# Altium footprint library FYP.PcbLib: 10 footprints
Each footprint in its own frame and in the unit in brackets; x right, y up, seen from the top. Pads: shape width x height; smd on the part's side, far side on the other; paste and mask are expansions set on the pad; w line width, h text height; cw(c..) or ccw(c..) is an arc to the next point about the centre after c.
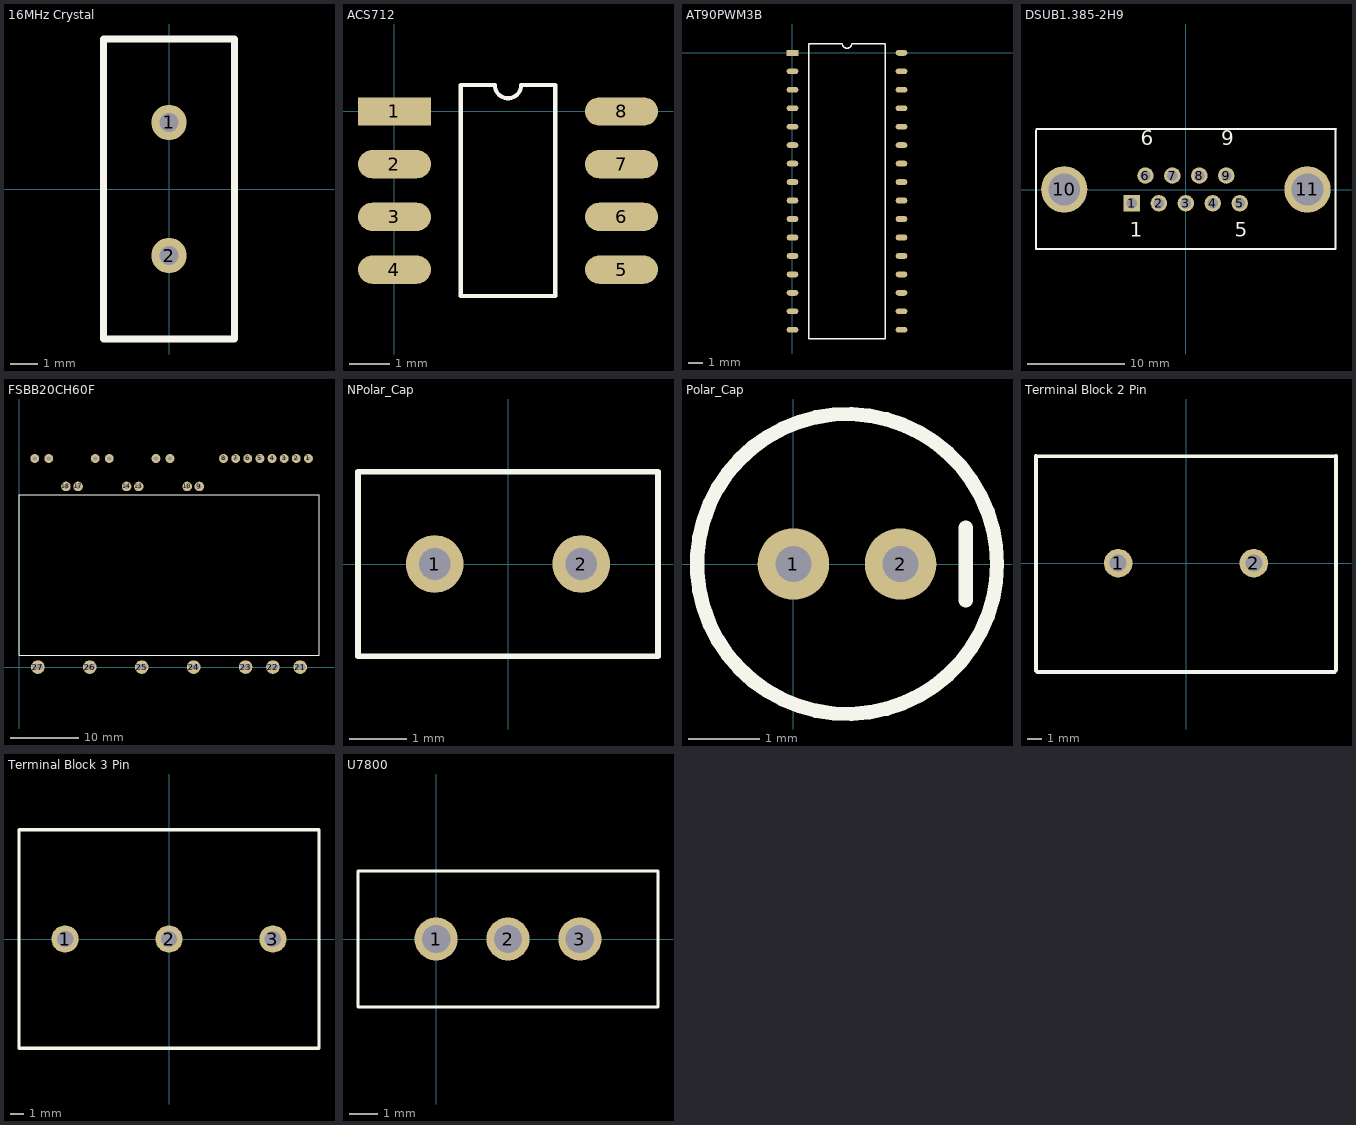
[diagram p0: the footprints below, top view; thin cyan lines are the x and y axes]

## 16MHz Crystal [mm] "Crystal, Thru-Hole; 2 Leads; Body 3.1 x 8.2 mm (Dia.xH)"
height 8.2
pads (2):
  round 1.3 hole 0.7: 1(0,2.44) 2(0,-2.44)
Top Overlay:
  lines w0.254: -2.4,-5.5 2.4,-5.5 2.4,5.5 -2.4,5.5 -2.4,-5.5

## ACS712 [mm]
pads (8):
  rect 1.8x0.7 smd: 1(0,0)
  oval 1.8x0.7 smd: 2(0,-1.3) 3(0,-2.6) 4(0,-3.9) 5(5.6,-3.9) 6(5.6,-2.6) 7(5.6,-1.3) 8(5.6,0)
Top Overlay:
  lines w0.1: 1.635,-4.55 1.635,0.65 2.475,0.65 ccw(c2.8,0.65) 3.125,0.65 3.965,0.65 3.965,-4.55 1.635,-4.55

## AT90PWM3B [mm]
pads (32):
  rect 0.8x0.4 smd: 1(0,0)
  oval 0.8x0.4 smd: 2(0,-1.27) 3(0,-2.54) 4(0,-3.81) 5(0,-5.08) 6(0,-6.35) 7(0,-7.62) 8(0,-8.89) 9(0,-10.16) 10(0,-11.43) 11(0,-12.7) 12(0,-13.97) 13(0,-15.24) 14(0,-16.51) 15(0,-17.78) 16(0,-19.05) 17(7.5,-19.05) 18(7.5,-17.78) 19(7.5,-16.51) 20(7.5,-15.24) 21(7.5,-13.97) 22(7.5,-12.7) 23(7.5,-11.43) 24(7.5,-10.16) 25(7.5,-8.89) 26(7.5,-7.62) 27(7.5,-6.35) 28(7.5,-5.08) 29(7.5,-3.81) 30(7.5,-2.54) 31(7.5,-1.27) 32(7.5,0)
Top Overlay:
  lines w0.1: 1.135,-19.685 6.365,-19.685 6.365,0.635 4.068,0.635 cw(c3.75,0.635) 3.433,0.635 1.135,0.635 1.135,-19.685

## DSUB1.385-2H9 [mm] "Connector; D Subminiature; 9 Position; Right Angle; Pitch 1.385 mm"
height 12.75
pads (11):
  rect 1.69x1.69 hole 1.09: 1(-5.54,-1.395)
  round 1.69 hole 1.09: 2(-2.77,-1.395) 3(0,-1.395) 4(2.77,-1.395) 5(5.54,-1.395) 6(-4.155,1.445) 7(-1.385,1.445) 8(1.385,1.445) 9(4.155,1.445)
  round 4.76 hole 3.26: 10(-12.495,0.025) 11(12.495,0.025)
Top Overlay:
  lines w0.2: -15.4,6.09 -15.4,-6.09 15.4,-6.09 15.4,6.09 ; -15.367,6.223 15.433,6.223
  text "6" at -4.655,4.55 h1.5
  text "9" at 3.655,4.55 h1.5
  text "5" at 5.04,-4.85 h1.5
  text "1" at -5.79,-4.85 h1.5

## FSBB20CH60F [mm]
pads (27):
  round 1.3 hole 0.65 square: 1(42.447,30.6) 2(40.669,30.6) 3(38.891,30.6) 4(37.113,30.6) 5(35.335,30.6) 6(33.557,30.6) 7(31.779,30.6) 8(30,30.6) 11(22.136,30.6) 12(20.086,30.6) 15(13.246,30.6) 16(11.169,30.6) 19(4.356,30.6) 20(2.306,30.6)
  round 1.4 hole 0.7 square: 9(26.445,26.5) 10(24.667,26.5) 13(17.555,26.5) 14(15.777,26.5) 17(8.665,26.5) 18(6.887,26.5)
  round 2 hole 0.65 slot 1.5 at 0 deg: 21(41.24,0) 22(37.24,0) 23(33.24,0) 24(25.62,0) 25(18,0) 26(10.38,0) 27(2.76,0)
Top Overlay:
  lines w0.1: 0,1.778 0,25.273 44,25.273 44,1.778 0,1.778

## NPolar_Cap [mm]
pads (2):
  round 1 hole 0.55: 1(-1.27,0) 2(1.27,0)
Top Overlay:
  lines w0.1: -2.6,-1.6 -2.6,1.6 2.6,1.6 2.6,-1.6 -2.6,-1.6

## Polar_Cap [mm]
pads (2):
  round 1 hole 0.5: 1(0,0) 2(1.5,0)
Top Overlay:
  circle w0.2: c0.75,0 r2.1
  lines w0.2: 2.413,-0.508 2.413,0.508

## Terminal Block 2 Pin [mm]
pads (2):
  round 2 hole 1.2: 1(-4.75,0) 2(4.75,0)
Top Overlay:
  lines w0.254: -10.5,7.5 -10.5,-7.534 -10.414,-7.62 10.414,-7.62 ; -10.414,7.493 10.414,7.493 ; 10.5,-7.5 10.5,7.5

## Terminal Block 3 Pin [mm]
pads (3):
  round 2 hole 1.2: 1(-7.62,0) 2(0,0) 3(7.62,0)
Top Overlay:
  lines w0.254: -11,-8 -11,8 ; -10.936,-8.001 10.922,-8.001 ; -10.922,8.001 10.922,8.001 ; 11,-8 11,8

## U7800 [mil]
pads (3):
  round 60 hole 39.37: 1(0,0) 2(100,0) 3(200,0)
Top Overlay:
  lines w3.94: -108.66,-94.49 -108.66,94.49 308.66,94.49 308.66,-94.49 -108.66,-94.49